# Altium footprint library SATA.PCBLIB: 2 footprints
Each footprint in its own frame and in the unit in brackets; x right, y up, seen from the top. Pads: shape width x height; smd on the part's side, far side on the other; paste and mask are expansions set on the pad; w line width, h text height; cw(c..) or ccw(c..) is an arc to the next point about the centre after c.
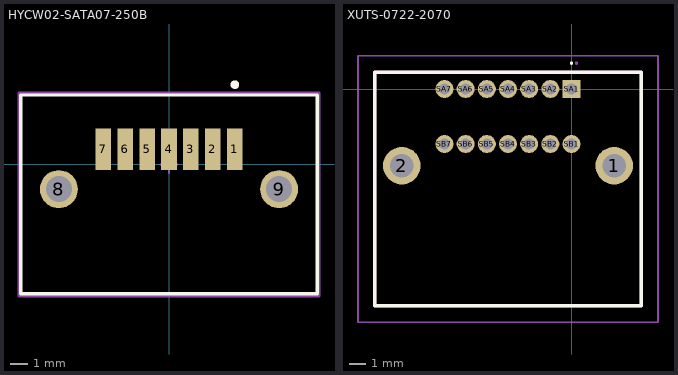
[diagram p0: the footprints below, top view; thin cyan lines are the x and y axes]

## HYCW02-SATA07-250B [mm]
pads (9):
  rect 0.9x2.4 smd paste+0 mask+0: 1(3.81,0.865) 2(2.54,0.865) 3(1.27,0.865) 4(0,0.865) 5(-1.27,0.865) 6(-2.54,0.865) 7(-3.81,0.865)
  round 2.2 hole 1.5 paste-2539.97 mask+0: 8(-6.37,-1.435) 9(6.37,-1.435)
Top Overlay:
  circle w0.25: c3.81,4.615 r0.125
  lines w0.2: -8.575,-7.485 8.575,-7.485 8.575,4.015 -8.575,4.015 -8.575,-7.485
Top Assembly:
  lines w0.2: -8.675,-7.585 -8.675,4.115 8.675,4.115 8.675,-7.585 -8.675,-7.585
Top Courtyard:
  lines w0.2: -8.675,-7.585 -8.675,4.115 8.675,4.115 8.675,-7.585 -8.675,-7.585
Top Designator:
  text ".Designator" at 0.872,0.841 h1
Top Component Center:
  lines w0.1: -0.5,0 0.5,0 ; 0,-0.5 0,0.5
3D body "10035692-011.STEP": height 5.48, standoff -2.42, extent -7.7,-7.85 8.3,1.5

## XUTS-0722-2070 [mm]
pads (16):
  round 2.25 hole 1.4: 1(2.56,-4.6) 2(-10.18,-4.6)
  rect 1.08x1.08 hole 0.65: SA1(0,0)
  round 1.08 hole 0.65: SA2(-1.27,0) SA3(-2.54,0) SA4(-3.81,0) SA5(-5.08,0) SA6(-6.35,0) SA7(-7.62,0) SB1(0,-3.3) SB2(-1.27,-3.3) SB3(-2.54,-3.3) SB4(-3.81,-3.3) SB5(-5.08,-3.3) SB6(-6.35,-3.3) SB7(-7.62,-3.3)
Top Overlay:
  lines w0.1: 0,1.5 cw(c0,1.55) 0,1.6 cw(c0,1.55) 0,1.5
  lines w0.2: -11.81,-13 4.19,-13 4.19,1 -11.81,1 -11.81,-13
Top Assembly:
  lines w0.1: 0.3,1.5 cw(c0.3,1.55) 0.3,1.6 cw(c0.3,1.55) 0.3,1.5
  lines w0.2: -11.81,-13 4.19,-13 4.19,1 -11.81,1 -11.81,-13
Top Courtyard:
  lines w0.1: -12.81,-14 5.19,-14 5.19,2 -12.81,2 -12.81,-14
Top Designator:
  text ".Designator" at -5.528,-6.159 h1
Top Value (Mech13):
  lines w0.1: -11.81,-13 4.19,-13 4.19,1 -11.81,1 -11.81,-13
3D body "SATA-D-PL-RT.stp": height 14.43, standoff -5, extent -11.81,-13 4.19,1